# Altium integrated library Altium_SMD_Resister.IntLib: 490 symbols (part 6 of 8)
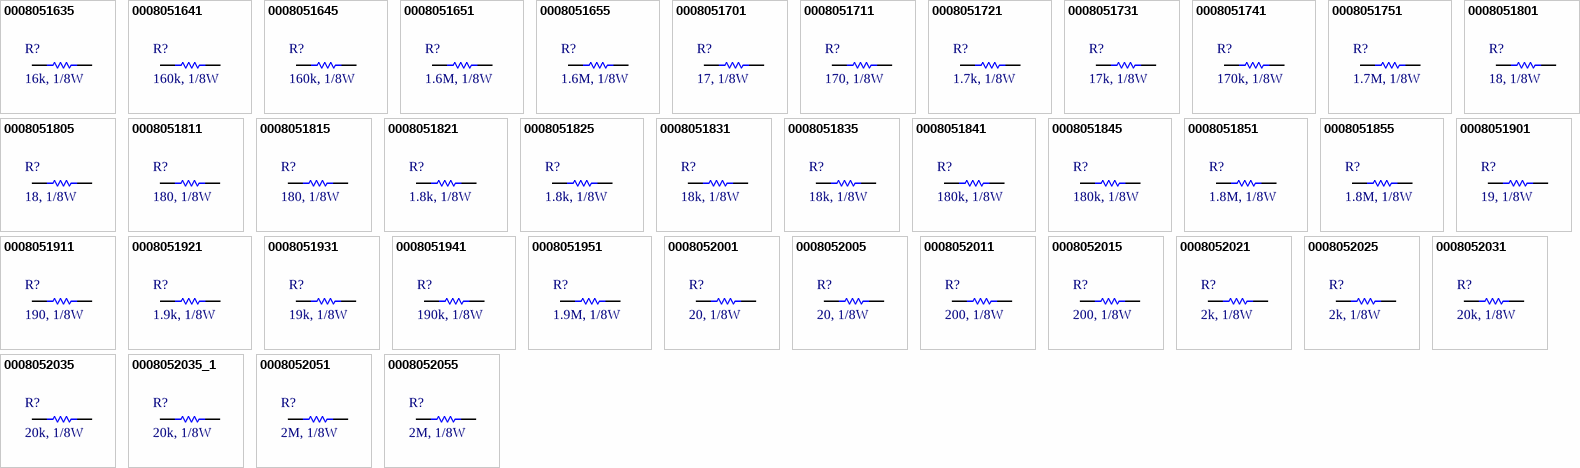
[diagram p17: symbols 0008051635 to 0008052055]

## 0008051845
designator R?, comment 180k, 1/8W
RES, 180k Ohm, size 0805, 5%; Manufacture  Name: Vishay Dale; Manufacture  SN: CRCW0805180KJNEA; Resistance tolerance: +/-5%; Supply 1 Name: DigiKey; Supply 1 SN: 541-180KATR-ND; Supply 2 Name: Mouser; Supply 2 SN: 71-CRCW0805180KJNEA; Supply 3 Name: ThegioiIC; Size: 0805; Mounting Technology: SMT; Rated Power: 1/8 W; Datasheet: https://www.vishay.com/docs/20035/dcrcwe3.pdf; Resistance: 180k; ComponentLink1Description: Datasheet link; ComponentLink1URL: *; Supply 1 URL: https://www.digikey.com/en/products/detail/vishay-dale/CRCW0805180KJNEA/1175252; Supply 2 URL: https://www.mouser.vn/c/passive-components/resistors/film-resistors/thick-film-resistors-smd/?case%20code%20-%20in=0805&m=Vishay&power%20rating=125%20mW%20%281%2F8%20W%29&resistance=180%20kOhms&tolerance=5%20%25; Supply 3 SN: *; Supply 3 URL: https://www.thegioiic.com/dien-tro-180-kohm-0805-5
footprint RESISTOR_0805 (Chip Resistor, 2-Leads, Body 2,00x1,20mm, IPC Medium Density)
pins: 1, 2

## 0008051851
designator R?, comment 1.8M, 1/8W
RES, 1.8M Ohm, size 0805, 1%; Manufacture  Name: Vishay Dale; Resistance tolerance: +/-1%; Supply 1 Name: DigiKey; Supply 1 SN: 71-CRCW08051M80FKEAC; Supply 2 Name: Mouser; Size: 0805; Mounting Technology: SMT; Rated Power: 1/8 W; Datasheet: *; ComponentLink1Description: Datasheet link; ComponentLink1URL: *; Supply 1 URL: https://www.digikey.com/en/products/detail/vishay-dale/CRCW08051M80FKEA/1176043; Supply 2 SN: 71-CRCW08051M80FKEAC; Supply 2 URL: https://www.mouser.vn/ProductDetail/Vishay-Dale/CRCW08051M80FKEAC?qs=E3Y5ESvWgWPnWxcGndSAkw%3D%3D; Supply 3 Name: *; Supply 3 SN: *; Supply 3 URL: *; Manufacture  SN: *; Resistance: 1.8M
footprint RESISTOR_0805 (Chip Resistor, 2-Leads, Body 2,00x1,20mm, IPC Medium Density)
pins: 1, 2

## 0008051855
designator R?, comment 1.8M, 1/8W
RES, 1.8M Ohm, size 0805, 5%; Manufacture  Name: Vishay Dale; Manufacture  SN: CRCW08051M80JNEA; Resistance tolerance: +/-5%; Supply 1 Name: DigiKey; Supply 1 SN: 541-1.8MATR-ND; Supply 2 Name: Mouser; Supply 2 SN: 71-CRCW08051M80JNEA; Supply 3 Name: ThegioiIC; Size: 0805; Mounting Technology: SMT; Rated Power: 1/8 W; Datasheet: https://www.vishay.com/docs/20035/dcrcwe3.pdf; ComponentLink1Description: Datasheet link; ComponentLink1URL: *; Supply 1 URL: https://www.digikey.com/en/products/detail/vishay-dale/CRCW08051M80JNEA/1175276; Supply 2 URL: https://www.mouser.vn/ProductDetail/Vishay-Dale/CRCW08051M80JNEA?qs=1CkV0QOCgMorN9CsUzm1mw%3D%3D; Supply 3 SN: *; Supply 3 URL: https://www.thegioiic.com/dien-tro-1-8-mohm-0805-5; Resistance: 1.8M
footprint RESISTOR_0805 (Chip Resistor, 2-Leads, Body 2,00x1,20mm, IPC Medium Density)
pins: 1, 2

## 0008051901
designator R?, comment 19, 1/8W
RES, 19 Ohm, size 0805, 1%; Manufacture  Name: Vishay Dale; Manufacture  SN: CRCW080519R1FKEA; Resistance tolerance: +/-1%; Resistance: 19; Supply 1 Name: DigiKey; Supply 1 SN: 541-19.1CTR-ND; Supply 2 Name: Mouser; Supply 2 SN: 71-CRCW080519R1FKEA; Size: 0805; Mounting Technology: SMT; Rated Power: 1/8 W; Datasheet: https://www.vishay.com/docs/20035/dcrcwe3.pdf; ComponentLink1Description: Datasheet link; ComponentLink1URL: *; Supply 1 URL: https://www.digikey.com/en/products/detail/vishay-dale/CRCW080519R1FKEA/1175439; Supply 2 URL: https://www.mouser.vn/ProductDetail/Vishay-Dale/CRCW080519R1FKEA?qs=DZvKvnD5UYXfdXVlAdbS3g%3D%3D; Supply 3 Name: *; Supply 3 SN: *; Supply 3 URL: *
footprint RESISTOR_0805 (Chip Resistor, 2-Leads, Body 2,00x1,20mm, IPC Medium Density)
pins: 1, 2

## 0008051911
designator R?, comment 190, 1/8W
RES, 190 Ohm, size 0805, 1%; Manufacture  Name: Vishay Dale; Manufacture  SN: CRCW0805191RFKEA; Resistance tolerance: +/-1%; Resistance: 190; Supply 1 Name: DigiKey; Supply 1 SN: 541-191CTR-ND; Supply 2 Name: Mouser; Supply 2 SN: 71-CRCW0805191RFKEA; Size: 0805; Mounting Technology: SMT; Rated Power: 1/8 W; Datasheet: https://www.vishay.com/docs/20035/dcrcwe3.pdf; ComponentLink1Description: Datasheet link; ComponentLink1URL: *; Supply 1 URL: https://www.digikey.com/en/products/detail/vishay-dale/CRCW0805191RFKEA/1175553; Supply 2 URL: https://www.mouser.vn/ProductDetail/Vishay-Dale/CRCW0805191RFKEA?qs=DZvKvnD5UYVwpMLdTR87ZQ%3D%3D; Supply 3 Name: *; Supply 3 SN: *; Supply 3 URL: *
footprint RESISTOR_0805 (Chip Resistor, 2-Leads, Body 2,00x1,20mm, IPC Medium Density)
pins: 1, 2

## 0008051921
designator R?, comment 1.9k, 1/8W
RES, 1.9k Ohm, size 0805, 1%; Manufacture  Name: Vishay Dale; Manufacture  SN: CRCW08051K91FKEA; Resistance tolerance: +/-1%; Supply 1 Name: DigiKey; Supply 1 SN: 541-1.91KCTR-ND; Supply 2 Name: Mouser; Supply 2 SN: 71-CRCW08051K91FKEAC; Size: 0805; Mounting Technology: SMT; Rated Power: 1/8 W; Datasheet: https://www.vishay.com/docs/20035/dcrcwe3.pdf; Resistance: 1.9k; ComponentLink1Description: Datasheet link; ComponentLink1URL: *; Supply 1 URL: https://www.digikey.com/en/products/detail/vishay-dale/CRCW08051K91FKEA/1175667; Supply 2 URL: https://www.mouser.vn/ProductDetail/Vishay-Dale/CRCW08051K91FKEAC?qs=E3Y5ESvWgWNbW88wEVrLPg%3D%3D; Supply 3 Name: *; Supply 3 SN: *; Supply 3 URL: *
footprint RESISTOR_0805 (Chip Resistor, 2-Leads, Body 2,00x1,20mm, IPC Medium Density)
pins: 1, 2

## 0008051931
designator R?, comment 19k, 1/8W
RES, 19k Ohm, size 0805, 1%; Manufacture  Name: Vishay Dale; Manufacture  SN: CRCW080519K0FKTA; Resistance tolerance: +/-1%; Supply 1 Name: DigiKey; Supply 1 SN: CRCW080519K0FKTA-ND; Supply 2 Name: Mouser; Supply 2 SN: 71-CRCW0805-19.1K; Size: 0805; Mounting Technology: SMT; Rated Power: 1/8 W; Datasheet: https://www.vishay.com/docs/20008/dcrcw.pdf; Resistance: 19k; ComponentLink1Description: Datasheet link; ComponentLink1URL: *; Supply 1 URL: https://www.digikey.com/en/products/detail/vishay-dale/CRCW080519K0FKTA/5074036?s=N4IgjCBcoExaBjKAzAhgGwM4FMA0IB7KAbXAAYAOAdgE4QBdfABwBcoQBlFgJwEsA7AOYgAvvgDM8EEkhoseQiXBhxERiFbsufIaPxgYNCNGkoMOfEUilxNcTAoNmbSJx4DhYkDEoBWKTJyForW4DQABADWAPIAFgC2mE4aLiAAqvy8LNHIALLYqJgArtzYeiAAtMaIZvKWSr4ALGoirUA; Supply 2 URL: https://www.mouser.vn/c/passive-components/resistors/film-resistors/thick-film-resistors-smd/?case%20code%20-%20in=0805&case%20code%20-%20mm=2012&m=Vishay&power%20rating=125%20mW%20%281%2F8%20W%29&resistance=19.1%20kOhms&termination%20style=SMD%2FSMT&tolerance=1%20%25; Supply 3 Name: *; Supply 3 SN: *; Supply 3 URL: *
footprint RESISTOR_0805 (Chip Resistor, 2-Leads, Body 2,00x1,20mm, IPC Medium Density)
pins: 1, 2

## 0008051941
designator R?, comment 190k, 1/8W
RES, 190k Ohm, size 0805, 1%; Manufacture  Name: Vishay Dale; Manufacture  SN: CRCW0805191KFKEAC; Resistance tolerance: +/-1%; Supply 1 Name: DigiKey; Supply 1 SN: 541-CRCW0805191KFKEACTR-ND; Supply 2 Name: Mouser; Supply 2 SN: 71-CRCW0805191KFKEAC; Supply 3 Name: ThegioiIc; Size: 0805; Mounting Technology: SMT; Rated Power: 1/8 W; Datasheet: https://www.vishay.com/docs/28773/crcwce3.pdf; Resistance: 190k; ComponentLink1Description: Datasheet link; ComponentLink1URL: *; Supply 1 URL: https://www.digikey.com/en/products/detail/vishay-dale/CRCW0805191KFKEAC/7922825; Supply 2 URL: https://www.mouser.vn/ProductDetail/Vishay-Dale/CRCW0805191KFKEAC?qs=wd5RIQLrsJiMbMBlRMtkHQ%3D%3D; Supply 3 SN: *; Supply 3 URL: https://www.mouser.vn/ProductDetail/Vishay-Dale/CRCW0805191KFKEAC?qs=wd5RIQLrsJiMbMBlRMtkHQ%3D%3D
footprint RESISTOR_0805 (Chip Resistor, 2-Leads, Body 2,00x1,20mm, IPC Medium Density)
pins: 1, 2

## 0008051951
designator R?, comment 1.9M, 1/8W
RES, 1.9M Ohm, size 0805, 1%; Manufacture  Name: Vishay Dale; Manufacture  SN: CRCW08051M91FKEAC; Resistance tolerance: +/-1%; Supply 1 Name: DigiKey; Supply 1 SN: CRCW08051M91FKEAC-ND; Supply 2 Name: Mouser; Supply 2 SN: 71-CRCW08051M91FKEA; Size: 0805; Mounting Technology: SMT; Rated Power: 1/8 W; Datasheet: https://www.vishay.com/docs/28773/crcwce3.pdf; Resistance: 1.9M; ComponentLink1Description: Datasheet link; ComponentLink1URL: *; Supply 1 URL: https://www.digikey.com/en/products/detail/vishay-dale/CRCW08051M91FKEAC/7923108; Supply 2 URL: https://www.mouser.vn/ProductDetail/Vishay-Dale/CRCW08051M91FKEA?qs=4T2aWUY5LRN4KaJWeIV0TQ%3D%3D; Supply 3 Name: *; Supply 3 SN: *; Supply 3 URL: *
footprint RESISTOR_0805 (Chip Resistor, 2-Leads, Body 2,00x1,20mm, IPC Medium Density)
pins: 1, 2

## 0008052001
designator R?, comment 20, 1/8W
RES, 20 Ohm, size 0805, 1%; Manufacture  Name: Vishay Dale; Manufacture  SN: CRCW080520R0FKEA; Resistance tolerance: +/-1%; Resistance: 20; Supply 1 Name: DigiKey; Supply 1 SN: 541-20.0CTR-ND; Supply 2 Name: Mouser; Supply 2 SN: 71-CRCW080520R0FKEBC; Size: 0805; Mounting Technology: SMT; Rated Power: 1/8 W; Datasheet: https://www.vishay.com/docs/20035/dcrcwe3.pdf; ComponentLink1Description: Datasheet link; ComponentLink1URL: *; Supply 1 URL: https://www.digikey.com/en/products/detail/vishay-dale/CRCW080520R0FKEA/1175441; Supply 2 URL: https://www.mouser.vn/ProductDetail/Vishay-Dale/CRCW080520R0FKEBC?qs=wd5RIQLrsJh%2FR92AkXDUUQ%3D%3D; Supply 3 Name: *; Supply 3 SN: *; Supply 3 URL: *
footprint RESISTOR_0805 (Chip Resistor, 2-Leads, Body 2,00x1,20mm, IPC Medium Density)
pins: 1, 2

## 0008052005
designator R?, comment 20, 1/8W
RES, 20 Ohm, size 0805, 5%; Manufacture  Name: Vishay Dale; Manufacture  SN: CRCW080520R0JNEAC; Resistance tolerance: +/-5%; Resistance: 20; Supply 1 Name: DigiKey; Supply 1 SN: 541-CRCW080520R0JNEACTR-ND; Supply 2 Name: Mouser; Supply 2 SN: 71-CRCW080520R0JNEA; Supply 3 Name: ThegioiIC; Size: 0805; Mounting Technology: SMT; Rated Power: 1/8 W; Datasheet: https://www.vishay.com/docs/28773/crcwce3.pdf; ComponentLink1Description: Datasheet link; ComponentLink1URL: *; Supply 1 URL: https://www.mouser.vn/ProductDetail/Vishay-Dale/CRCW080520R0JNEA?qs=t6Mf8e9K%2FulaBeAax0Rq9A%3D%3D; Supply 2 URL: https://www.mouser.vn/ProductDetail/Vishay-Dale/CRCW080520R0FKEBC?qs=wd5RIQLrsJh%2FR92AkXDUUQ%3D%3D; Supply 3 SN: *; Supply 3 URL: https://www.thegioiic.com/dien-tro-20-ohm-0805-5-
footprint RESISTOR_0805 (Chip Resistor, 2-Leads, Body 2,00x1,20mm, IPC Medium Density)
pins: 1, 2

## 0008052011
designator R?, comment 200, 1/8W
RES, 200 Ohm, size 0805, 1%; Manufacture  Name: Vishay Dale; Manufacture  SN: CRCW0805200RFKEAC; Resistance tolerance: +/-1%; Resistance: 200; Supply 1 Name: DigiKey; Supply 1 SN: 541-4146-2-ND; Supply 2 Name: Mouser; Supply 2 SN: 71-CRCW0805200RFKEBC; Size: 0805; Mounting Technology: SMT; Rated Power: 1/8 W; Datasheet: https://www.vishay.com/docs/28773/crcwce3.pdf; ComponentLink1Description: Datasheet link; ComponentLink1URL: *; Supply 1 URL: https://www.digikey.com/en/products/detail/vishay-dale/CRCW0805200RFKEAC/7928568; Supply 2 URL: https://www.mouser.vn/ProductDetail/Vishay-Dale/CRCW0805200RFKEBC?qs=wd5RIQLrsJjaNQUh4mW%252B3A%3D%3D; Supply 3 Name: *; Supply 3 SN: *; Supply 3 URL: *
footprint RESISTOR_0805 (Chip Resistor, 2-Leads, Body 2,00x1,20mm, IPC Medium Density)
pins: 1, 2

## 0008052015
designator R?, comment 200, 1/8W
RES, 200 Ohm, size 0805, 5%; Manufacture  Name: Vishay Dale; Manufacture  SN: CRCW0805200RJNEA; Resistance tolerance: +/-5%; Resistance: 200; Supply 1 Name: DigiKey; Supply 1 SN: 541-200ATR-ND; Supply 2 Name: Mouser; Supply 2 SN: 71-CRCW0805200RJNEB; Supply 3 Name: ThegioiIC; Size: 0805; Mounting Technology: SMT; Rated Power: 1/8 W; Datasheet: https://www.vishay.com/docs/20035/dcrcwe3.pdf; ComponentLink1Description: Datasheet link; ComponentLink1URL: *; Supply 1 URL: https://www.digikey.com/en/products/detail/vishay-dale/CRCW0805200RJNEA/1175181; Supply 2 URL: https://www.mouser.vn/ProductDetail/Vishay-Dale/CRCW0805200RJNEB?qs=t6Mf8e9K%2Fuk2QHyNFfSEGg%3D%3D; Supply 3 SN: *; Supply 3 URL: https://www.thegioiic.com/dien-tro-200-ohm-0805-5
footprint RESISTOR_0805 (Chip Resistor, 2-Leads, Body 2,00x1,20mm, IPC Medium Density)
pins: 1, 2

## 0008052021
designator R?, comment 2k, 1/8W
RES, 2k Ohm, size 0805, 1%; Manufacture  Name: Vishay Dale; Manufacture  SN: CRCW08052K00FKEBC; Resistance tolerance: +/-1%; Supply 1 Name: DigiKey; Supply 1 SN: 541-CRCW08052K00FKEBCTR-ND; Supply 2 Name: Mouser; Supply 2 SN: 71-CRCW08052K00FKEBC; Size: 0805; Mounting Technology: SMT; Rated Power: 1/8 W; Datasheet: https://www.vishay.com/docs/28773/crcwce3.pdf; Resistance: 2k; ComponentLink1Description: Datasheet link; ComponentLink1URL: *; Supply 1 URL: https://www.digikey.com/en/products/detail/vishay-dale/CRCW08052K00FKEBC/7923203; Supply 2 URL: https://www.mouser.vn/ProductDetail/Vishay-Dale/CRCW08052K00FKEBC?qs=wd5RIQLrsJimvZ2z7rs9jQ%3D%3D; Supply 3 Name: *; Supply 3 SN: *; Supply 3 URL: *
footprint RESISTOR_0805 (Chip Resistor, 2-Leads, Body 2,00x1,20mm, IPC Medium Density)
pins: 1, 2

## 0008052025
designator R?, comment 2k, 1/8W
RES, 2k Ohm, size 0805, 5%; Manufacture  Name: Vishay Dale; Manufacture  SN: CRCW08052K00JNEA; Resistance tolerance: +/-5%; Supply 1 Name: DigiKey; Supply 1 SN: 541-2.0KATR-ND; Supply 2 Name: Mouser; Supply 2 SN: 71-CRCW08052K00JNEA; Supply 3 Name: ThegioiIC; Size: 0805; Mounting Technology: SMT; Rated Power: 1/8 W; Datasheet: https://www.vishay.com/docs/20035/dcrcwe3.pdf; Resistance: 2k; ComponentLink1Description: Datasheet link; ComponentLink1URL: *; Supply 1 URL: https://www.digikey.com/en/products/detail/vishay-dale/CRCW08052K00JNEA/1175205; Supply 2 URL: https://www.mouser.vn/ProductDetail/Vishay-Dale/CRCW08052K00JNEA?qs=SM0pg8AlB3peKJz4hE%252BhDA%3D%3D; Supply 3 SN: *; Supply 3 URL: https://www.thegioiic.com/dien-tro-2-kohm-0805-5
footprint RESISTOR_0805 (Chip Resistor, 2-Leads, Body 2,00x1,20mm, IPC Medium Density)
pins: 1, 2

## 0008052031
designator R?, comment 20k, 1/8W
RES, 20k Ohm, size 0805, 1%; Manufacture  Name: Vishay Dale; Manufacture  SN: CRCW080520K0FKEAC; Resistance tolerance: +/-1%; Supply 1 Name: DigiKey; Supply 1 SN: 541-4133-2-ND; Supply 2 Name: Mouser; Supply 2 SN: 71-CRCW0805-20K; Supply 3 Name: ThegioiIC; Size: 0805; Mounting Technology: SMT; Rated Power: 1/8 W; Datasheet: https://www.vishay.com/docs/28773/crcwce3.pdf; Resistance: 20k; ComponentLink1Description: Datasheet link; ComponentLink1URL: *; Supply 1 URL: https://www.digikey.com/en/products/detail/vishay-dale/CRCW080520K0FKEAC/7928555; Supply 2 URL: https://www.mouser.vn/ProductDetail/Vishay-Dale/CRCW080520K0FKTA?qs=18bRiP0yrODnUEny%2FmPwqA%3D%3D; Supply 3 SN: *; Supply 3 URL: https://www.thegioiic.com/dien-tro-20-kohm-0805-1
footprint RESISTOR_0805 (Chip Resistor, 2-Leads, Body 2,00x1,20mm, IPC Medium Density)
pins: 1, 2

## 0008052035
designator R?, comment 20k, 1/8W
RES, 20k Ohm, size 0805, 5%; Manufacture  Name: Panasonic; Manufacture  SN: ERJ-U06J203V; Resistance tolerance: +/-5%; Supply 1 Name: Mouser; Supply 1 SN: 667-ERJ-U06J203V; Supply 2 Name: Digi-Key; Supply 2 SN: P20KATR-ND - Tape & Reel (TR); Supply 3 Name: OEM; Size: 0805; Mounting Technology: SMT; Rated Power: 1/8 W; Datasheet: https://www.mouser.vn/datasheet/2/315/AOA0000C334-1314047.pdf; Resistance: 20k; ComponentLink1Description: Datasheet link; ComponentLink1URL: *; Supply 1 URL: https://www.mouser.vn/ProductDetail/Panasonic/ERJ-U06J203V?qs=Yyy8avaXlIv0b2cRsnbjDw%3D%3D; Supply 2 URL: https://www.digikey.com/en/products/detail/panasonic-electronic-components/ERJ-6GEYJ203V/83076; Supply 3 SN: *; Supply 3 URL: https://www.thegioiic.com/dien-tro-20-kohm-0805-5-
footprint RESISTOR_0805 (Chip Resistor, 2-Leads, Body 2,00x1,20mm, IPC Medium Density)
pins: 1, 2

## 0008052035_1
designator R?, comment 20k, 1/8W
RES, 20k Ohm, size 0805, 5%; Manufacture  Name: Vishay Dale; Manufacture  SN: CRCW080520K0JNEA; Resistance tolerance: +/-5%; Supply 1 Name: DigiKey; Supply 1 SN: 541-20KATR-ND; Supply 2 Name: Mouser; Supply 2 SN: 71-CRCW0805J-20K-E3; Supply 3 Name: ThegioiIC; Size: 0805; Mounting Technology: SMT; Rated Power: 1/8 W; Datasheet: https://www.vishay.com/docs/20035/dcrcwe3.pdf; Resistance: 20k; ComponentLink1Description: Datasheet link; ComponentLink1URL: *; Supply 1 URL: https://www.digikey.com/en/products/detail/vishay-dale/CRCW080520K0JNEA/1175229; Supply 2 URL: https://www.mouser.vn/ProductDetail/Vishay-Dale/CRCW080520K0JNEA?qs=t6Mf8e9K%2FunNZ57Hz5Mz5w%3D%3D; Supply 3 SN: *; Supply 3 URL: https://www.thegioiic.com/dien-tro-20-kohm-0805-5-
footprint RESISTOR_0805 (Chip Resistor, 2-Leads, Body 2,00x1,20mm, IPC Medium Density)
pins: 1, 2

## 0008052051
designator R?, comment 2M, 1/8W
RES, 2M Ohm, size 0805, 1%; Manufacture  Name: Panasonic; Manufacture  SN: ERJ-6ENF2004V; Resistance tolerance: +/-1%; Supply 1 Name: Mouser; Supply 1 SN: 667-ERJ-6ENF2004V; Supply 2 Name: Viet Nam; Size: 0805; Mounting Technology: SMT; Rated Power: 1/8 W; Datasheet: https://www.mouser.vn/datasheet/2/315/AOA0000C304-1149620.pdf; Resistance: 2M; ComponentLink1Description: Datasheet link; ComponentLink1URL: *; Supply 1 URL: https://www.mouser.vn/ProductDetail/Panasonic/ERJ-6ENF2004V?qs=50QC8w71jAsSP8AJKmX4kA%3D%3D; Supply 2 SN: *; Supply 2 URL: https://1688s.vn/dien-tro-dan-0805-2-2mr-1-8w-1-goi-50-con; Supply 3 Name: *; Supply 3 SN: *; Supply 3 URL: *
footprint RESISTOR_0805 (Chip Resistor, 2-Leads, Body 2,00x1,20mm, IPC Medium Density)
pins: 1, 2

## 0008052055
designator R?, comment 2M, 1/8W
RES, 2M Ohm, size 0805, 5%; Manufacture  Name: Panasonic; Manufacture  SN: ERJ-6GEYJ205V; Resistance tolerance: +/-5%; Supply 1 Name: Mouser; Supply 1 SN: 667-ERJ-6GEYJ205V; Supply 2 Name: Digi-Key; Supply 2 SN: 10-ERJ-U06J205VTR-ND - Tape & Reel (TR); Size: 0805; Mounting Technology: SMT; Rated Power: 1/8 W; Datasheet: https://www.mouser.vn/datasheet/2/315/AOA0000C301-1488782.pdf; Resistance: 2M; ComponentLink1Description: Datasheet link; ComponentLink1URL: *; Supply 1 URL: https://www.mouser.vn/ProductDetail/Panasonic/ERJ-6GEYJ205V?qs=8%252BG0TiN%2FgVosrBfWIhyhKw%3D%3D; Supply 2 URL: https://www.digikey.com/en/products/detail/panasonic-electronic-components/ERJ-U06J205V/11631387; Supply 3 Name: *; Supply 3 SN: *; Supply 3 URL: *
footprint RESISTOR_0805 (Chip Resistor, 2-Leads, Body 2,00x1,20mm, IPC Medium Density)
pins: 1, 2

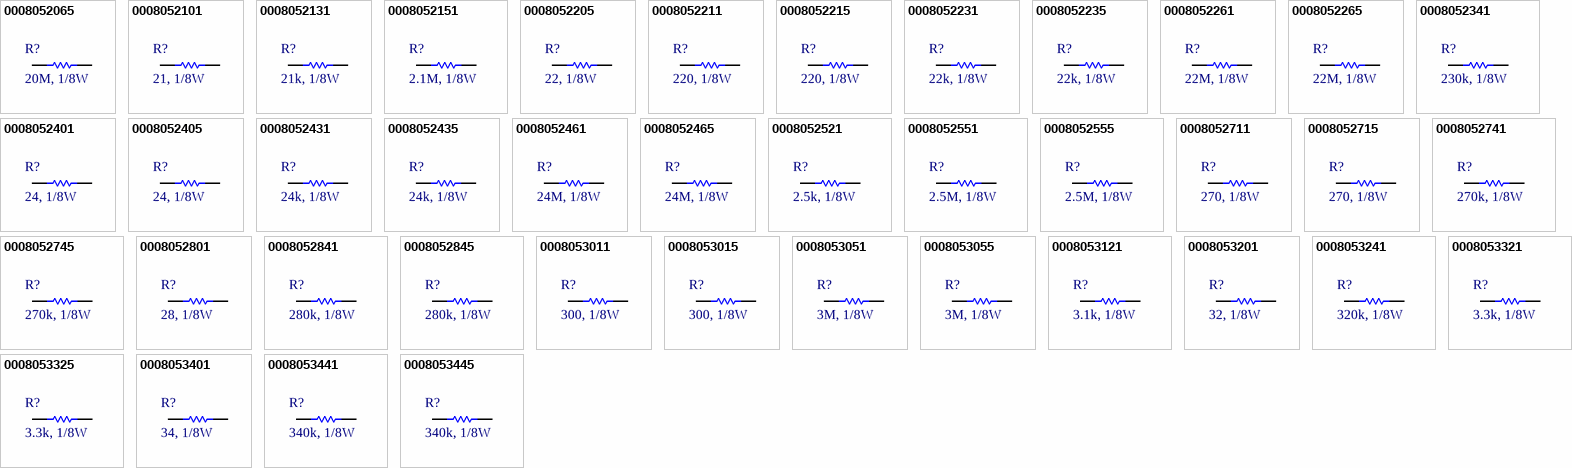
[diagram p9: symbols 0008052065 to 0008053445]

## 0008052065
designator R?, comment 20M, 1/8W
RES, 20M Ohm, size 0805, 5%; Manufacture  Name: YAGEO; Manufacture  SN: RC0805JR-0720ML; Resistance tolerance: +/-5%; Supply 1 Name: Mouser; Supply 1 SN: 13-RC0805JR-0720MLTR-ND - Tape & Reel (TR); Supply 2 Name: Digi-Key; Supply 2 SN: P2.1BTTR-ND - Tape & Reel (TR); Size: 0805; Mounting Technology: SMT; Rated Power: 1/8 W; Datasheet: https://www.mouser.vn/datasheet/2/447/PYu_RC_Group_51_RoHS_L_11-1984063.pdf; Resistance: 20M; ComponentLink1Description: Datasheet link; ComponentLink1URL: *; Supply 1 URL: https://www.mouser.vn/ProductDetail/YAGEO/RC0805JR-0720ML?qs=FsveJYYILCKsJCsPRaOT6g%3D%3D; Supply 2 URL: https://www.digikey.com/en/products/detail/yageo/RC0805JR-0720ML/5919059; Supply 3 Name: *; Supply 3 SN: *; Supply 3 URL: *
footprint RESISTOR_0805 (Chip Resistor, 2-Leads, Body 2,00x1,20mm, IPC Medium Density)
pins: 1, 2

## 0008052101
designator R?, comment 21, 1/8W
RES, 21 Ohm, size 0805, 1%; Manufacture  Name: Vishay / Dale; Manufacture  SN: CRCW080521R0FKEA; Resistance tolerance: +/-1%; Resistance: 21; Supply 1 Name: Mouser; Supply 1 SN: 71-CRCW080521R0FKEA; Supply 2 Name: OEM; Size: 0805; Mounting Technology: SMT; Rated Power: 1/8 W; Datasheet: https://www.vishay.com/doc?20035; ComponentLink1Description: Datasheet link; ComponentLink1URL: *; Supply 1 URL: https://www.mouser.vn/ProductDetail/Vishay-Dale/CRCW080521R0FKEA?qs=t6Mf8e9K%2Fuko8IyNc8Xfag%3D%3D; Supply 2 SN: *; Supply 2 URL: https://www.thegioiic.com/dien-tro-21-ohm-0805-1-; Supply 3 Name: *; Supply 3 SN: *; Supply 3 URL: *
footprint RESISTOR_0805 (Chip Resistor, 2-Leads, Body 2,00x1,20mm, IPC Medium Density)
pins: 1, 2

## 0008052131
designator R?, comment 21k, 1/8W
RES, 21k Ohm, size 0805, 1%; Manufacture  Name: Bourns; Manufacture  SN: CR0805-FX-2102ELF; Resistance tolerance: +/-1%; Supply 1 Name: Mouser; Supply 1 SN: 652-CR0805FX-2102ELF; Supply 2 Name: Digi-Key; Supply 2 SN: 311-21.0KCRTR-ND - Tape & Reel (TR); Size: 0805; Mounting Technology: SMT; Rated Power: 1/8 W; Datasheet: https://www.mouser.vn/datasheet/2/54/cr-1858361.pdf; Resistance: 21k; ComponentLink1Description: Datasheet link; ComponentLink1URL: *; Supply 1 URL: https://www.mouser.vn/ProductDetail/Bourns/CR0805-FX-2102ELF?qs=Woncl1%2FcWdgAGNTXVWqgGA%3D%3D; Supply 2 URL: https://www.digikey.com/en/products/detail/yageo/RC0805FR-0721KL/727728; Supply 3 Name: *; Supply 3 SN: *; Supply 3 URL: *
footprint RESISTOR_0805 (Chip Resistor, 2-Leads, Body 2,00x1,20mm, IPC Medium Density)
pins: 1, 2

## 0008052151
designator R?, comment 2.1M, 1/8W
RES, 2.1M Ohm, size 0805, 1%; Manufacture  Name: Vishay / Dale; Manufacture  SN: CRCW08052M10FKEA; Resistance tolerance: +/-1%; Supply 1 Name: Mouser; Supply 1 SN: 71-CRCW08052M10FKEA; Supply 2 Name: Digi-Key; Supply 2 SN: P2.1BTTR-ND - Tape & Reel (TR); Size: 0805; Mounting Technology: SMT; Rated Power: 1/8 W; Datasheet: https://www.vishay.com/doc?20035; Resistance: 2.1M; ComponentLink1Description: Datasheet link; ComponentLink1URL: *; Supply 1 URL: https://www.mouser.vn/ProductDetail/Vishay-Dale/CRCW08052M10FKEA?qs=AxGrLaB7GFLQOtpwLfDPFg%3D%3D; Supply 2 URL: https://www.digikey.com/en/products/detail/panasonic-electronic-components/ERJ-6ENF2104V/4429124; Supply 3 Name: *; Supply 3 SN: *; Supply 3 URL: *
footprint RESISTOR_0805 (Chip Resistor, 2-Leads, Body 2,00x1,20mm, IPC Medium Density)
pins: 1, 2

## 0008052205
designator R?, comment 22, 1/8W
RES, 22 Ohm, size 0805, 5%; Manufacture  Name: Bourns; Manufacture  SN: CR0805-JW-200ELF; Resistance tolerance: +/-5%; Resistance: 22; Supply 1 Name: Mouser; Supply 1 SN: 652-CR0805JW-200ELF; Supply 2 Name: Digi-Key; Supply 2 SN: CHP0805-JW-200ELFTR-ND - Tape & Reel (TR); Supply 3 Name: OEM; Size: 0805; Mounting Technology: SMT; Rated Power: 1/8 W; Datasheet: https://www.mouser.vn/datasheet/2/54/cr-1858361.pdf; ComponentLink1Description: Datasheet link; ComponentLink1URL: *; Supply 1 URL: https://www.mouser.vn/ProductDetail/Bourns/CR0805-JW-200ELF?qs=wL7NMIHXUPkPRFW4oSYkFg%3D%3D; Supply 2 URL: https://www.digikey.com/en/products/detail/bourns-inc/CHP0805-JW-200ELF/9598606; Supply 3 SN: *; Supply 3 URL: https://www.thegioiic.com/dien-tro-20-ohm-0805-5-
footprint RESISTOR_0805 (Chip Resistor, 2-Leads, Body 2,00x1,20mm, IPC Medium Density)
pins: 1, 2

## 0008052211
designator R?, comment 220, 1/8W
RES, 220 Ohm, size 0805, 1%; Manufacture  Name: ROHM Semiconductor; Manufacture  SN: SFR10EZPF2200; Resistance tolerance: +/-1%; Resistance: 220; Supply 1 Name: Mouser; Supply 1 SN: 755-SFR10EZPF2200; Supply 2 Name: Digi-Key; Supply 2 SN: 13-RC0805FR-13220RLTR-ND - Tape & Reel (TR); Supply 3 Name: OEM; Size: 0805; Mounting Technology: SMT; Rated Power: 1/8 W; Datasheet: https://www.mouser.vn/datasheet/2/348/sfr_e-3009639.pdf; ComponentLink1Description: Datasheet link; ComponentLink1URL: *; Supply 1 URL: https://www.mouser.vn/ProductDetail/ROHM-Semiconductor/SFR10EZPF2200?qs=Y0Uzf4wQF3kqA8mD%252BXm5fA%3D%3D; Supply 2 URL: https://www.digikey.com/en/products/detail/yageo/RC0805FR-13220RL/14008293; Supply 3 SN: *; Supply 3 URL: https://www.thegioiic.com/dien-tro-220-ohm-0805-1-
footprint RESISTOR_0805 (Chip Resistor, 2-Leads, Body 2,00x1,20mm, IPC Medium Density)
pins: 1, 2

## 0008052215
designator R?, comment 220, 1/8W
RES, 220 Ohm, size 0805, 5%; Manufacture  Name: Panasonic; Manufacture  SN: ERJ-U06J221V; Resistance tolerance: +/-5%; Resistance: 220; Supply 1 Name: Mouser; Supply 1 SN: 667-ERJ-U06J221V; Supply 2 Name: Digi-Key; Supply 2 SN: P220ATR-ND - Tape & Reel (TR); Supply 3 Name: OEM; Size: 0805; Mounting Technology: SMT; Rated Power: 1/8 W; Datasheet: https://www.mouser.vn/datasheet/2/348/sfr_e-3009639.pdf; ComponentLink1Description: Datasheet link; ComponentLink1URL: *; Supply 1 URL: https://www.mouser.vn/ProductDetail/ROHM-Semiconductor/SFR10EZPF2200?qs=Y0Uzf4wQF3kqA8mD%252BXm5fA%3D%3D; Supply 2 URL: https://www.digikey.com/en/products/detail/panasonic-electronic-components/ERJ-6GEYJ221V/89706; Supply 3 SN: *; Supply 3 URL: https://www.thegioiic.com/dien-tro-220-ohm-0805-5
footprint RESISTOR_0805 (Chip Resistor, 2-Leads, Body 2,00x1,20mm, IPC Medium Density)
pins: 1, 2

## 0008052231
designator R?, comment 22k, 1/8W
RES, 22k Ohm, size 0805, 1%; Manufacture  Name: Vishay / Dale; Manufacture  SN: CRCW080522K0FKEA; Resistance tolerance: +/-1%; Supply 1 Name: Mouser; Supply 1 SN: 71-CRCW0805-22K-E3; Supply 2 Name: Digi-Key; Supply 2 SN: 13-RC0805FR-1322KLTR-ND - Tape & Reel (TR); Supply 3 Name: OEM; Size: 0805; Mounting Technology: SMT; Rated Power: 1/8 W; Datasheet: https://www.vishay.com/doc?20035; Resistance: 22k; ComponentLink1Description: Datasheet link; ComponentLink1URL: *; Supply 1 URL: https://www.mouser.vn/ProductDetail/Vishay-Dale/CRCW080522K0FKEA?qs=fIsz7OpyEY835T0D7WGkRw%3D%3D; Supply 2 URL: https://www.digikey.com/en/products/detail/yageo/RC0805FR-1322KL/14008208; Supply 3 SN: *; Supply 3 URL: https://www.thegioiic.com/dien-tro-22-kohm-0805-1
footprint RESISTOR_0805 (Chip Resistor, 2-Leads, Body 2,00x1,20mm, IPC Medium Density)
pins: 1, 2

## 0008052235
designator R?, comment 22k, 1/8W
RES, 22k Ohm, size 0805, 5%; Manufacture  Name: Vishay / Dale; Manufacture  SN: CRCW080522K0FKEA; Resistance tolerance: +/-5%; Supply 1 Name: Mouser; Supply 1 SN: 71-CRCW0805-22K-E3; Supply 2 Name: Digi-Key; Supply 2 SN: 13-RC0805FR-1322KLTR-ND - Tape & Reel (TR); Supply 3 Name: OEM; Size: 0805; Mounting Technology: SMT; Rated Power: 1/8 W; Datasheet: https://www.vishay.com/doc?20035; Resistance: 22k; ComponentLink1Description: Datasheet link; ComponentLink1URL: *; Supply 1 URL: https://www.mouser.vn/ProductDetail/Vishay-Dale/CRCW080522K0FKEA?qs=fIsz7OpyEY835T0D7WGkRw%3D%3D; Supply 2 URL: https://www.digikey.com/en/products/detail/yageo/RC0805FR-1322KL/14008208; Supply 3 SN: *; Supply 3 URL: https://www.thegioiic.com/dien-tro-22-kohm-0805-1
footprint RESISTOR_0805 (Chip Resistor, 2-Leads, Body 2,00x1,20mm, IPC Medium Density)
pins: 1, 2

## 0008052261
designator R?, comment 22M, 1/8W
RES, 22M Ohm, size 0805, 1%; Manufacture  Name: SEI Stackpole; Manufacture  SN: RMCF0805FT22M0; Resistance tolerance: +/-1%; Supply 1 Name: Mouser; Supply 1 SN: 708-RMCF0805FT22M0; Supply 2 Name: Digi-Key; Supply 2 SN: RMCF0805FT22M0TR-ND - Tape & Reel (TR); Size: 0805; Mounting Technology: SMT; Rated Power: 1/8 W; Datasheet: https://www.mouser.vn/datasheet/2/385/SEI_RMCF_RMCP-3077565.pdf; Resistance: 22M; ComponentLink1Description: Datasheet link; ComponentLink1URL: *; Supply 1 URL: https://www.mouser.vn/ProductDetail/SEI-Stackpole/RMCF0805FT22M0?qs=MyNHzdoqoQLIOin2poKxZA%3D%3D; Supply 2 URL: https://www.digikey.com/en/products/detail/stackpole-electronics-inc/RMCF0805FT22M0/6053747; Supply 3 Name: *; Supply 3 SN: *; Supply 3 URL: *
footprint RESISTOR_0805 (Chip Resistor, 2-Leads, Body 2,00x1,20mm, IPC Medium Density)
pins: 1, 2

## 0008052265
designator R?, comment 22M, 1/8W
RES, 22M Ohm, size 0805, 5%; Manufacture  Name: SEI Stackpole; Manufacture  SN: RMCF0805FT22M0; Resistance tolerance: +/-5%; Supply 1 Name: Mouser; Supply 1 SN: 71-CRCW0805226JT; Supply 2 Name: Digi-Key; Supply 2 SN: 541-CRCW080522M0JPEAHRTR-ND - Tape & Reel (TR); Size: 0805; Mounting Technology: SMT; Rated Power: 1/8 W; Datasheet: https://www.vishay.com/doc?20022; Resistance: 22M; ComponentLink1Description: Datasheet link; ComponentLink1URL: *; Supply 1 URL: https://www.mouser.vn/ProductDetail/Vishay-Dale/CRCW080522M0JPEAHR?qs=fIsz7OpyEY%2FBgljFbesWMw%3D%3D; Supply 2 URL: https://www.digikey.com/en/products/detail/vishay-dale/CRCW080522M0JPEAHR/5074441; Supply 3 Name: *; Supply 3 SN: *; Supply 3 URL: *
footprint RESISTOR_0805 (Chip Resistor, 2-Leads, Body 2,00x1,20mm, IPC Medium Density)
pins: 1, 2

## 0008052341
designator R?, comment 230k, 1/8W
RES, 230k Ohm, size 0805, 1%; Manufacture  Name: Royalohm; Manufacture  SN: 0805W8F2303T5E; Resistance tolerance: +/-1%; Supply 1 Name: Mouser; Supply 1 SN: 303-0805W8F2303T5E; Size: 0805; Mounting Technology: SMT; Rated Power: 1/8 W; Datasheet: https://www.mouser.vn/datasheet/2/1365/1-3044649.pdf; Resistance: 230k; ComponentLink1Description: Datasheet link; ComponentLink1URL: *; Supply 1 URL: https://www.mouser.vn/ProductDetail/Royalohm/0805W8F2303T5E?qs=e8oIoAS2J1TfhjSl20ty9Q%3D%3D; Supply 2 Name: *; Supply 2 SN: *; Supply 2 URL: *; Supply 3 Name: *; Supply 3 SN: *; Supply 3 URL: *
footprint RESISTOR_0805 (Chip Resistor, 2-Leads, Body 2,00x1,20mm, IPC Medium Density)
pins: 1, 2

## 0008052401
designator R?, comment 24, 1/8W
RES, 24 Ohm, size 0805, 1%; Manufacture  Name: Bourns; Manufacture  SN: CR0805-FX-24R0ELF; Resistance tolerance: +/-1%; Resistance: 24; Supply 1 Name: Mouser; Supply 1 SN: 652-CR0805FX-24R0ELF; Supply 2 Name: Digi-Key; Supply 2 SN: 311-24.0CRTR-ND - Tape & Reel (TR); Size: 0805; Mounting Technology: SMT; Rated Power: 1/8 W; Datasheet: https://www.mouser.vn/datasheet/2/54/cr-1858361.pdf; ComponentLink1Description: Datasheet link; ComponentLink1URL: *; Supply 1 URL: https://www.mouser.vn/ProductDetail/Bourns/CR0805-FX-24R0ELF?qs=4vGXhLEMbUyS5LbGuwLBiw%3D%3D; Supply 2 URL: https://www.digikey.com/en/products/detail/yageo/RC0805FR-0724RL/727755; Supply 3 Name: *; Supply 3 SN: *; Supply 3 URL: *
footprint RESISTOR_0805 (Chip Resistor, 2-Leads, Body 2,00x1,20mm, IPC Medium Density)
pins: 1, 2

## 0008052405
designator R?, comment 24, 1/8W
RES, 24 Ohm, size 0805, 5%; Manufacture  Name: YAGEO; Manufacture  SN: AR0805JR-0724RL; Resistance tolerance: +/-5%; Resistance: 24; Supply 1 Name: Mouser; Supply 1 SN: 603-AR0805JR-0724RL; Supply 2 Name: Digi-Key; Supply 2 SN: 311-24ARTR-ND - Tape & Reel (TR); Supply 3 Name: OEM; Size: 0805; Mounting Technology: SMT; Rated Power: 1/8 W; Datasheet: https://www.mouser.vn/datasheet/2/447/PYu_AR_51_RoHS_L_7-3003081.pdf; ComponentLink1Description: Datasheet link; ComponentLink1URL: *; Supply 1 URL: https://www.mouser.vn/ProductDetail/YAGEO/AR0805JR-0724RL?qs=tub3WQyKOl9Td0xHEAWkDQ%3D%3D; Supply 2 URL: https://www.digikey.com/en/products/detail/yageo/RC0805JR-0724RL/728289; Supply 3 SN: *; Supply 3 URL: https://www.thegioiic.com/dien-tro-24-ohm-0805-5-
footprint RESISTOR_0805 (Chip Resistor, 2-Leads, Body 2,00x1,20mm, IPC Medium Density)
pins: 1, 2

## 0008052431
designator R?, comment 24k, 1/8W
RES, 24k Ohm, size 0805, 1%; Manufacture  Name: TE Connectivity / Holsworthy; Manufacture  SN: CRG0805F24K; Resistance tolerance: +/-1%; Supply 1 Name: Mouser; Supply 1 SN: 279-CRG0805F24K; Supply 2 Name: Digi-Key; Supply 2 SN: 311-24.0KCRTR-ND - Tape & Reel (TR); Size: 0805; Mounting Technology: SMT; Rated Power: 1/8 W; Datasheet: https://www.mouser.vn/datasheet/2/418/NG_CD_1623163_BA-655702.pdf; Resistance: 24k; ComponentLink1Description: Datasheet link; ComponentLink1URL: *; Supply 1 URL: https://www.mouser.vn/ProductDetail/TE-Connectivity-Holsworthy/CRG0805F24K?qs=5Dj%252BCDyFp7jSU1utfpqO1w%3D%3D; Supply 2 URL: https://www.digikey.com/en/products/detail/yageo/RC0805FR-0724KL/727756; Supply 3 Name: *; Supply 3 SN: *; Supply 3 URL: *
footprint RESISTOR_0805 (Chip Resistor, 2-Leads, Body 2,00x1,20mm, IPC Medium Density)
pins: 1, 2

## 0008052435
designator R?, comment 24k, 1/8W
RES, 24k Ohm, size 0805, 5%; Manufacture  Name: Bourns; Manufacture  SN: CR0805-JW-243ELF; Resistance tolerance: +/-5%; Supply 1 Name: Mouser; Supply 1 SN: 652-CR0805JW-243ELF; Supply 2 Name: Digi-Key; Supply 2 SN: 118-CR0805-JW-243ELFTR-ND - Tape & Reel (TR); Supply 3 Name: OEM; Size: 0805; Mounting Technology: SMT; Rated Power: 1/8 W; Datasheet: https://www.mouser.vn/datasheet/2/418/NG_CD_1623163_BA-655702.pdf; Resistance: 24k; ComponentLink1Description: Datasheet link; ComponentLink1URL: *; Supply 1 URL: https://www.mouser.vn/ProductDetail/Bourns/CR0805-JW-243ELF?qs=%252BcBkmVQIZ2SWVtow93mBjQ%3D%3D; Supply 2 URL: https://www.digikey.com/en/products/detail/bourns-inc/CR0805-JW-243ELF/3785280; Supply 3 SN: *; Supply 3 URL: https://www.thegioiic.com/dien-tro-24-kohm-0805-5
footprint RESISTOR_0805 (Chip Resistor, 2-Leads, Body 2,00x1,20mm, IPC Medium Density)
pins: 1, 2

## 0008052461
designator R?, comment 24M, 1/8W
RES, 24M Ohm, size 0805, 1%; Manufacture  Name: KOA Speer Electronics, Inc.; Manufacture  SN: HV732HTTE2405F; Resistance tolerance: +/-1%; Supply 1 Name: Digi-Key; Supply 1 SN: 2019-HV732HTTE2405FTR-ND - Tape & Reel (TR); Size: 0805; Mounting Technology: SMT; Rated Power: 1/8 W; Datasheet: https://www.koaspeer.com/pdfs/HV73.pdf; Resistance: 24M; ComponentLink1Description: Datasheet link; ComponentLink1URL: *; Supply 1 URL: https://www.digikey.com/en/products/detail/koa-speer-electronics-inc/HV732HTTE2405F/10132853?s=N4IgjCBcoMxaBjKAzAhgGwM4FMA0IB7KAbXDBggF18AHAFyhAGU6AnASwDsBzEAX3wAmAAwAOAKzwQSSGix5CJEIIAsAAgCyAeQAWAW0whqIeowCqndnS3IN2VJgCurbPz58gA; Supply 2 Name: *; Supply 2 SN: *; Supply 2 URL: *; Supply 3 Name: *; Supply 3 SN: *; Supply 3 URL: *
footprint RESISTOR_0805 (Chip Resistor, 2-Leads, Body 2,00x1,20mm, IPC Medium Density)
pins: 1, 2

## 0008052465
designator R?, comment 24M, 1/8W
RES, 24M Ohm, size 0805, 5%; Manufacture  Name: KOA Speer Electronics, Inc.; Manufacture  SN: HV732ATTD246J; Resistance tolerance: +/-5%; Supply 1 Name: Digi-Key; Supply 1 SN: 660-HV732ATTD246J; Supply 2 SN: 2019-HV732ATTD246JTR-ND - Tape & Reel (TR); Size: 0805; Mounting Technology: SMT; Rated Power: 1/8 W; Datasheet: https://www.mouser.vn/datasheet/2/219/HV73-11287.pdf; Resistance: 24M; ComponentLink1Description: Datasheet link; ComponentLink1URL: *; Supply 1 URL: https://www.mouser.vn/ProductDetail/KOA-Speer/HV732ATTD246J?qs=UGeEjMFwUpRa%252BFVrwwDXrw%3D%3D; Supply 2 Name: Digi-Key; Supply 2 URL: https://www.digikey.com/en/products/detail/koa-speer-electronics-inc/HV732ATTD246J/10134530; Supply 3 Name: *; Supply 3 SN: *; Supply 3 URL: *
footprint RESISTOR_0805 (Chip Resistor, 2-Leads, Body 2,00x1,20mm, IPC Medium Density)
pins: 1, 2

## 0008052521
designator R?, comment 2.5k, 1/8W
RES, 2.5k Ohm, size 0805, 1%; Manufacture  Name: Royalohm; Manufacture  SN: 0805W8F2501T5E; Resistance tolerance: +/-1%; Supply 1 Name: Mouser; Supply 1 SN: 303-0805W8F2501T5E; Supply 2 Name: Digi-Key; Supply 2 SN: 2997-CR102501FTR-ND - Tape & Reel (TR); Size: 0805; Mounting Technology: SMT; Rated Power: 1/8 W; Datasheet: https://www.mouser.vn/datasheet/2/1365/1-3044649.pdf; Resistance: 2.5k; ComponentLink1Description: Datasheet link; ComponentLink1URL: *; Supply 1 URL: https://www.mouser.vn/ProductDetail/Royalohm/0805W8F2501T5E?qs=e8oIoAS2J1Qc4Ic0dQUBsw%3D%3D; Supply 2 URL: https://www.digikey.com/en/products/detail/meritek/CR102501F/13414399; Supply 3 Name: *; Supply 3 SN: *; Supply 3 URL: *
footprint RESISTOR_0805 (Chip Resistor, 2-Leads, Body 2,00x1,20mm, IPC Medium Density)
pins: 1, 2

## 0008052551
designator R?, comment 2.5M, 1/8W
RES, 2.5M Ohm, size 0805, 1%; Manufacture  Name: Royalohm; Manufacture  SN: 0805W8F2504T5E; Resistance tolerance: +/-1%; Supply 1 Name: Mouser; Supply 1 SN: 303-0805W8F2504T5E; Size: 0805; Mounting Technology: SMT; Rated Power: 1/8 W; Datasheet: https://www.mouser.vn/datasheet/2/1365/1-3044649.pdf; Resistance: 2.5M; ComponentLink1Description: Datasheet link; ComponentLink1URL: *; Supply 1 URL: https://www.mouser.vn/ProductDetail/Royalohm/0805W8F2504T5E?qs=e8oIoAS2J1Q2l7BgYnDvGQ%3D%3D; Supply 2 Name: *; Supply 2 SN: *; Supply 2 URL: *; Supply 3 Name: *; Supply 3 SN: *; Supply 3 URL: *
footprint RESISTOR_0805 (Chip Resistor, 2-Leads, Body 2,00x1,20mm, IPC Medium Density)
pins: 1, 2

## 0008052555
designator R?, comment 2.5M, 1/8W
RES, 2.5M Ohm, size 0805, 5%; Manufacture  Name: Ohmite; Manufacture  SN: HVC0805T2504JET; Resistance tolerance: +/-5%; Supply 1 Name: Mouser; Supply 1 SN: 588-HVC0805T2504JET; Supply 2 Name: Digi-Key; Supply 2 SN: HVC0805T2504JETTR-ND - Tape & Reel (TR); Size: 0805; Mounting Technology: SMT; Rated Power: 1/8 W; Datasheet: https://www.mouser.vn/datasheet/2/303/res_hvc-3082600.pdf; Resistance: 2.5M; ComponentLink1Description: Datasheet link; ComponentLink1URL: *; Supply 1 URL: https://www.mouser.vn/ProductDetail/Ohmite/HVC0805T2504JET?qs=wolJx%252BcPnTpZSJA41zZzFA%3D%3D; Supply 2 URL: https://www.digikey.com/en/products/detail/ohmite/HVC0805T2504JET/4759727; Supply 3 Name: *; Supply 3 SN: *; Supply 3 URL: *
footprint RESISTOR_0805 (Chip Resistor, 2-Leads, Body 2,00x1,20mm, IPC Medium Density)
pins: 1, 2

## 0008052711
designator R?, comment 270, 1/8W
RES, 270 Ohm, size 0805, 1%; Manufacture  Name: Bourns; Manufacture  SN: CR0805-FX-2700ELF; Resistance tolerance: +/-1%; Resistance: 270; Supply 1 Name: Mouser; Supply 1 SN: 652-CR0805FX-2700ELF; Supply 2 Name: Digi-Key; Supply 2 SN: 311-270CRTR-ND - Tape & Reel (TR); Size: 0805; Mounting Technology: SMT; Rated Power: 1/8 W; Datasheet: https://www.mouser.vn/datasheet/2/54/cr-1858361.pdf; ComponentLink1Description: Datasheet link; ComponentLink1URL: *; Supply 1 URL: https://www.mouser.vn/ProductDetail/Bourns/CR0805-FX-2700ELF?qs=4vGXhLEMbUwfoxAMFQ260A%3D%3D; Supply 2 URL: https://www.digikey.com/en/products/detail/yageo/RC0805FR-07270RL/727783; Supply 3 Name: *; Supply 3 SN: *; Supply 3 URL: *
footprint RESISTOR_0805 (Chip Resistor, 2-Leads, Body 2,00x1,20mm, IPC Medium Density)
pins: 1, 2

## 0008052715
designator R?, comment 270, 1/8W
RES, 270 Ohm, size 0805, 5%; Manufacture  Name: Bourns; Manufacture  SN: CR0805-JW-271ELF; Resistance tolerance: +/-5%; Resistance: 270; Supply 1 Name: Mouser; Supply 1 SN: 652-CR0805JW-271ELF; Supply 2 Name: Digi-Key; Supply 2 SN: 118-CR0805-JW-271ELFTR-ND - Tape & Reel (TR); Supply 3 Name: OEM; Size: 0805; Mounting Technology: SMT; Rated Power: 1/8 W; Datasheet: https://www.mouser.vn/datasheet/2/54/cr-1858361.pdf; ComponentLink1Description: Datasheet link; ComponentLink1URL: *; Supply 1 URL: https://www.mouser.vn/ProductDetail/Bourns/CR0805-JW-271ELF?qs=%252BcBkmVQIZ2R7GER%2FjClJmw%3D%3D; Supply 2 URL: https://www.digikey.com/en/products/detail/bourns-inc/CR0805-JW-271ELF/3785284; Supply 3 SN: *; Supply 3 URL: https://www.thegioiic.com/dien-tro-270-ohm-0805-5
footprint RESISTOR_0805 (Chip Resistor, 2-Leads, Body 2,00x1,20mm, IPC Medium Density)
pins: 1, 2

## 0008052741
designator R?, comment 270k, 1/8W
RES, 270k Ohm, size 0805, 1%; Manufacture  Name: Panasonic; Manufacture  SN: ERJ-6ENF2703V; Resistance tolerance: +/-1%; Supply 1 Name: Mouser; Supply 1 SN: 667-ERJ-6ENF2703V; Supply 2 Name: Digi-Key; Supply 2 SN: 311-270KCRTR-ND - Tape & Reel (TR); Size: 0805; Mounting Technology: SMT; Rated Power: 1/8 W; Datasheet: https://www.mouser.vn/datasheet/2/315/AOA0000C304-1149620.pdf; Resistance: 270k; ComponentLink1Description: Datasheet link; ComponentLink1URL: *; Supply 1 URL: https://www.mouser.vn/ProductDetail/Panasonic/ERJ-6ENF2703V?qs=50QC8w71jAsIUsFp0TwUKw%3D%3D; Supply 2 URL: https://www.digikey.com/en/products/detail/yageo/RC0805FR-07270KL/727784; Supply 3 Name: *; Supply 3 SN: *; Supply 3 URL: *
footprint RESISTOR_0805 (Chip Resistor, 2-Leads, Body 2,00x1,20mm, IPC Medium Density)
pins: 1, 2

## 0008052745
designator R?, comment 270k, 1/8W
RES, 270k Ohm, size 0805, 5%; Manufacture  Name: Panasonic; Manufacture  SN: ERJ-6GEYJ274V; Resistance tolerance: +/-5%; Supply 1 Name: Mouser; Supply 1 SN: 667-ERJ-6GEYJ274V; Supply 2 Name: Digi-Key; Supply 2 SN: P270KATR-ND - Tape & Reel (TR); Supply 3 Name: OEM; Size: 0805; Mounting Technology: SMT; Rated Power: 1/8 W; Datasheet: https://www.mouser.vn/datasheet/2/315/AOA0000C301-1488782.pdf; Resistance: 270k; ComponentLink1Description: Datasheet link; ComponentLink1URL: *; Supply 1 URL: https://www.mouser.vn/ProductDetail/Panasonic/ERJ-6GEYJ274V?qs=8%252BG0TiN%2FgVoTZyZKP1v2zQ%3D%3D; Supply 2 URL: https://www.digikey.com/en/products/detail/panasonic-electronic-components/ERJ-6GEYJ274V/83130; Supply 3 SN: *; Supply 3 URL: https://www.thegioiic.com/dien-tro-270-kohm-0805-5
footprint RESISTOR_0805 (Chip Resistor, 2-Leads, Body 2,00x1,20mm, IPC Medium Density)
pins: 1, 2

## 0008052801
designator R?, comment 28, 1/8W
RES, 28 Ohm, size 0805, 1%; Manufacture  Name: Panasonic; Manufacture  SN: ERJ-6ENF28R0V; Resistance tolerance: +/-1%; Resistance: 28; Supply 1 Name: Mouser; Supply 1 SN: 667-ERJ-6ENF28R0V; Supply 2 Name: Digi-Key; Supply 2 SN: P28.0CTR-ND - Tape & Reel (TR); Size: 0805; Mounting Technology: SMT; Rated Power: 1/8 W; Datasheet: https://www.mouser.vn/datasheet/2/315/AOA0000C304-1149620.pdf; ComponentLink1Description: Datasheet link; ComponentLink1URL: *; Supply 1 URL: https://www.mouser.vn/ProductDetail/Panasonic/ERJ-6ENF28R0V?qs=50QC8w71jAuRG2tW%252B3oKbA%3D%3D; Supply 2 URL: https://www.digikey.com/en/products/detail/panasonic-electronic-components/ERJ-6ENF28R0V/110979; Supply 3 Name: *; Supply 3 SN: *; Supply 3 URL: *
footprint RESISTOR_0805 (Chip Resistor, 2-Leads, Body 2,00x1,20mm, IPC Medium Density)
pins: 1, 2

## 0008052841
designator R?, comment 280k, 1/8W
RES, 280k Ohm, size 0805, 1%; Manufacture  Name: Bourns; Manufacture  SN: CR0805-FX-2803ELF; Resistance tolerance: +/-1%; Supply 1 Name: Mouser; Supply 1 SN: 652-CR0805FX-2803ELF; Supply 2 Name: Digi-Key; Supply 2 SN: 311-280KCRTR-ND - Tape & Reel (TR); Size: 0805; Mounting Technology: SMT; Rated Power: 1/8 W; Datasheet: https://www.mouser.vn/datasheet/2/54/cr-1858361.pdf; Resistance: 280k; ComponentLink1Description: Datasheet link; ComponentLink1URL: *; Supply 1 URL: https://www.mouser.vn/ProductDetail/Bourns/CR0805-FX-2803ELF?qs=4vGXhLEMbUxB3cDlEY4HEQ%3D%3D; Supply 2 URL: https://www.digikey.com/en/products/detail/yageo/RC0805FR-07280KL/727792; Supply 3 Name: *; Supply 3 SN: *; Supply 3 URL: *
footprint RESISTOR_0805 (Chip Resistor, 2-Leads, Body 2,00x1,20mm, IPC Medium Density)
pins: 1, 2

## 0008052845
designator R?, comment 280k, 1/8W
RES, 280k Ohm, size 0805, 5%; Manufacture  Name: Royalohm; Manufacture  SN: HV05W8J0284T5E; Resistance tolerance: +/-5%; Supply 1 Name: Mouser; Supply 1 SN: 303-HV05W8J0284T5E; Size: 0805; Mounting Technology: SMT; Rated Power: 1/8 W; Datasheet: https://www.mouser.vn/datasheet/2/1365/HighVoltageHV-2525183.pdf; Resistance: 280k; ComponentLink1Description: Datasheet link; ComponentLink1URL: *; Supply 1 URL: https://www.mouser.vn/ProductDetail/Royalohm/HV05W8J0284T5E?qs=Wj%2FVkw3K%252BMC%252B5QnCuawYGQ%3D%3D; Supply 2 Name: *; Supply 2 SN: *; Supply 2 URL: *; Supply 3 Name: *; Supply 3 SN: *; Supply 3 URL: *
footprint RESISTOR_0805 (Chip Resistor, 2-Leads, Body 2,00x1,20mm, IPC Medium Density)
pins: 1, 2

## 0008053011
designator R?, comment 300, 1/8W
RES, 300 Ohm, size 0805, 1%; Manufacture  Name: Panasonic; Manufacture  SN: ERJ-S06F3000V; Resistance tolerance: +/-1%; Resistance: 300; Supply 1 Name: Mouser; Supply 1 SN: 667-ERJ-S06F3000V; Supply 2 Name: Digi-Key; Supply 2 SN: 311-300CRTR-ND - Tape & Reel (TR); Size: 0805; Mounting Technology: SMT; Rated Power: 1/8 W; Datasheet: https://www.mouser.vn/datasheet/2/315/AOA0000C334-1314047.pdf; ComponentLink1Description: Datasheet link; ComponentLink1URL: *; Supply 1 URL: https://www.mouser.vn/ProductDetail/Panasonic/ERJ-S06F3000V?qs=Zyl8A9hlmJpmD9LhGiXEgw%3D%3D; Supply 2 URL: https://www.digikey.com/en/products/detail/yageo/RC0805FR-07300RL/727848; Supply 3 Name: *; Supply 3 SN: *; Supply 3 URL: *
footprint RESISTOR_0805 (Chip Resistor, 2-Leads, Body 2,00x1,20mm, IPC Medium Density)
pins: 1, 2

## 0008053015
designator R?, comment 300, 1/8W
RES, 300 Ohm, size 0805, 5%; Manufacture  Name: Panasonic; Manufacture  SN: ERJ-U06J301V; Resistance tolerance: +/-5%; Resistance: 300; Supply 1 Name: Mouser; Supply 1 SN: 667-ERJ-U06J301V; Supply 2 Name: Digi-Key; Supply 2 SN: P300ATR-ND - Tape & Reel (TR); Supply 3 Name: THEGIOIIC; Size: 0805; Mounting Technology: SMT; Rated Power: 1/8 W; Datasheet: https://www.mouser.vn/datasheet/2/315/AOA0000C334-1314047.pdf; ComponentLink1Description: Datasheet link; ComponentLink1URL: *; Supply 1 URL: https://www.mouser.vn/ProductDetail/Panasonic/ERJ-U06J301V?qs=Yyy8avaXlIukLi0FzhyiCQ%3D%3D; Supply 2 URL: https://www.digikey.com/en/products/detail/panasonic-electronic-components/ERJ-6GEYJ301V/89720; Supply 3 SN: *; Supply 3 URL: https://www.thegioiic.com/dien-tro-300-ohm-0805-5
footprint RESISTOR_0805 (Chip Resistor, 2-Leads, Body 2,00x1,20mm, IPC Medium Density)
pins: 1, 2

## 0008053051
designator R?, comment 3M, 1/8W
RES, 3M Ohm, size 0805, 1%; Manufacture  Name: Vishay / Dale; Manufacture  SN: CRCW08053M00FKEA; Resistance tolerance: +/-1%; Supply 1 Name: Mouser; Supply 1 SN: 71-CRCW08053M00FKEA; Supply 2 Name: Digi-Key; Supply 2 SN: RHM3.00MAHTR-ND - Tape & Reel (TR); Size: 0805; Mounting Technology: SMT; Rated Power: 1/8 W; Datasheet: https://www.vishay.com/doc?20035; Resistance: 3M; ComponentLink1Description: Datasheet link; ComponentLink1URL: *; Supply 1 URL: https://www.mouser.vn/ProductDetail/Vishay-Dale/CRCW08053M00FKEA?qs=kJXytlGtIWmJu2iuqz4MEQ%3D%3D; Supply 2 URL: https://www.digikey.com/en/products/detail/rohm-semiconductor/KTR10EZPF3004/1983650; Supply 3 Name: *; Supply 3 SN: *; Supply 3 URL: *
footprint RESISTOR_0805 (Chip Resistor, 2-Leads, Body 2,00x1,20mm, IPC Medium Density)
pins: 1, 2

## 0008053055
designator R?, comment 3M, 1/8W
RES, 3M Ohm, size 0805, 5%; Manufacture  Name: Panasonic; Manufacture  SN: ERJ-6GEYJ305V; Resistance tolerance: +/-5%; Supply 1 Name: Mouser; Supply 1 SN: 667-ERJ-6GEYJ305V; Supply 2 Name: Digi-Key; Supply 2 SN: P3.0MATR-ND - Tape & Reel (TR); Size: 0805; Mounting Technology: SMT; Rated Power: 1/8 W; Datasheet: https://www.mouser.vn/datasheet/2/315/AOA0000C301-1488782.pdf; Resistance: 3M; ComponentLink1Description: Datasheet link; ComponentLink1URL: *; Supply 1 URL: https://www.mouser.vn/ProductDetail/Panasonic/ERJ-6GEYJ305V?qs=YMBIwoNQYdW%2FI7cx0FQYDA%3D%3D; Supply 2 URL: https://www.digikey.com/en/products/detail/panasonic-electronic-components/ERJ-6GEYJ305V/282179; Supply 3 Name: *; Supply 3 SN: *; Supply 3 URL: *
footprint RESISTOR_0805 (Chip Resistor, 2-Leads, Body 2,00x1,20mm, IPC Medium Density)
pins: 1, 2

## 0008053121
designator R?, comment 3.1k, 1/8W
RES, 3.1k Ohm, size 0805, 1%; Manufacture  Name: Royalohm; Manufacture  SN: 0805W8F3101T5E; Resistance tolerance: +/-1%; Supply 1 Name: Mouser; Supply 1 SN: 303-0805W8F3101T5E; Size: 0805; Mounting Technology: SMT; Rated Power: 1/8 W; Datasheet: https://www.mouser.vn/datasheet/2/1365/1-3044649.pdf; Resistance: 3.1k; ComponentLink1Description: Datasheet link; ComponentLink1URL: *; Supply 1 URL: https://www.mouser.vn/ProductDetail/Royalohm/0805W8F3101T5E?qs=e8oIoAS2J1Tf1Mb5mAEVdw%3D%3D; Supply 2 Name: *; Supply 2 SN: *; Supply 2 URL: *; Supply 3 Name: *; Supply 3 SN: *; Supply 3 URL: *
footprint RESISTOR_0805 (Chip Resistor, 2-Leads, Body 2,00x1,20mm, IPC Medium Density)
pins: 1, 2

## 0008053201
designator R?, comment 32, 1/8W
RES, 32 Ohm, size 0805, 1%; Manufacture  Name: KOA Speer Electronics, Inc.; Manufacture  SN: RN73R2ATTD32R0F100; Resistance tolerance: +/-1%; Resistance: 32; Supply 1 Name: Digi-Key; Supply 1 SN: 2019-RN73R2ATTD32R0F100TR-ND - Tape & Reel (TR); Size: 0805; Mounting Technology: SMT; Rated Power: 1/8 W; Datasheet: https://media.digikey.com/pdf/Data%20Sheets/KOA%20Speer/RN73R_Type_DS.pdf; ComponentLink1Description: Datasheet link; ComponentLink1URL: *; Supply 1 URL: https://www.digikey.com/en/products/detail/koa-speer-electronics-inc/RN73R2ATTD32R0F100/10030831; Supply 2 Name: *; Supply 2 SN: *; Supply 2 URL: *; Supply 3 Name: *; Supply 3 SN: *; Supply 3 URL: *
footprint RESISTOR_0805 (Chip Resistor, 2-Leads, Body 2,00x1,20mm, IPC Medium Density)
pins: 1, 2

## 0008053241
designator R?, comment 320k, 1/8W
RES, 320k Ohm, size 0805, 1%; Manufacture  Name: Royalohm; Manufacture  SN: 0805W8F3203T5E; Resistance tolerance: +/-1%; Supply 1 Name: Mouser; Supply 1 SN: 303-0805W8F3203T5E; Supply 2 Name: Digi-Key; Supply 2 SN: 2019-RN73H2ATTD3203F100TR-ND - Tape & Reel (TR); Size: 0805; Mounting Technology: SMT; Rated Power: 1/8 W; Datasheet: https://www.mouser.vn/datasheet/2/1365/1-3044649.pdf; Resistance: 320k; ComponentLink1Description: Datasheet link; ComponentLink1URL: *; Supply 1 URL: https://www.mouser.vn/ProductDetail/Royalohm/0805W8F3203T5E?qs=e8oIoAS2J1SLbDpmWuICGg%3D%3D; Supply 2 URL: https://www.digikey.com/en/products/detail/koa-speer-electronics-inc/RN73H2ATTD3203F100/10090183; Supply 3 Name: *; Supply 3 SN: *; Supply 3 URL: *
footprint RESISTOR_0805 (Chip Resistor, 2-Leads, Body 2,00x1,20mm, IPC Medium Density)
pins: 1, 2

## 0008053321
designator R?, comment 3.3k, 1/8W
RES, 3.3k Ohm, size 0805, 1%; Manufacture  Name: Panasonic; Manufacture  SN: ERJ-6ENF3301V; Resistance tolerance: +/-1%; Supply 1 Name: Mouser; Supply 1 SN: 667-ERJ-6ENF3301V; Supply 2 Name: Digi-Key; Supply 2 SN: 13-RC0805FR-133K3LTR-ND - Tape & Reel (TR); Supply 3 Name: THEGIOIIC; Size: 0805; Mounting Technology: SMT; Rated Power: 1/8 W; Datasheet: https://www.mouser.vn/datasheet/2/315/AOA0000C304-1149620.pdf; Resistance: 3.3k; ComponentLink1Description: Datasheet link; ComponentLink1URL: *; Supply 1 URL: https://www.mouser.vn/ProductDetail/Panasonic/ERJ-6ENF3301V?qs=sGAEpiMZZMtlubZbdhIBIGigBIB3A6R9dIvMOtC7jmQ%3D; Supply 2 URL: https://www.digikey.com/en/products/detail/yageo/RC0805FR-133K3L/14008213; Supply 3 SN: *; Supply 3 URL: https://www.thegioiic.com/dien-tro-3-3-kohm-0805-1-
footprint RESISTOR_0805 (Chip Resistor, 2-Leads, Body 2,00x1,20mm, IPC Medium Density)
pins: 1, 2